# Altium footprint library HANDS-FREE-PCBLIB-V2.0.PcbLib: 236 footprints (part 12 of 16)
Each footprint in its own frame and in the unit in brackets; x right, y up, seen from the top. Pads: shape width x height; smd on the part's side, far side on the other; paste and mask are expansions set on the pad; w line width, h text height; cw(c..) or ccw(c..) is an arc to the next point about the centre after c.
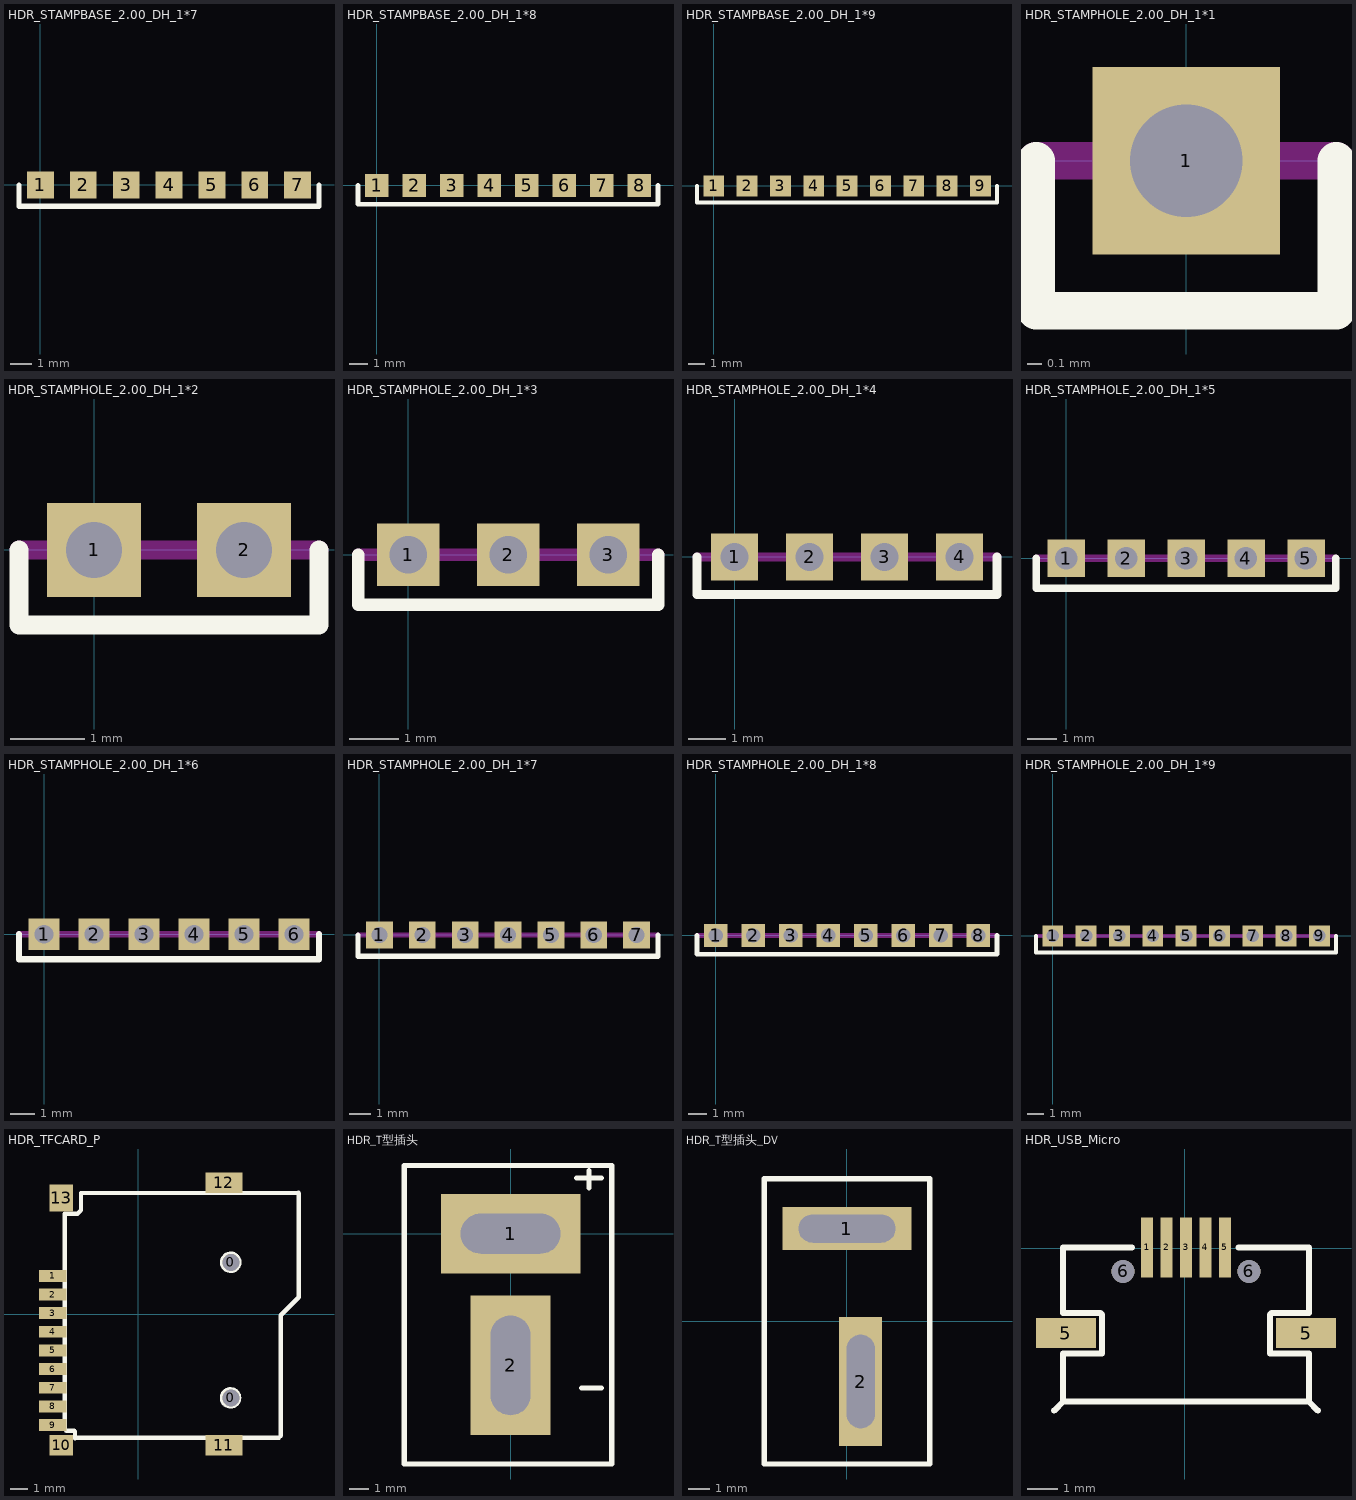
[diagram p11: the footprints below, top view; thin cyan lines are the x and y axes]

## HDR_STAMPBASE_2.00_DH_1*7 [mil]
pads (7):
  rect 50x50 smd: 1(0,0) 2(80,0) 3(160,0) 4(240,0) 5(320,0) 6(400,0) 7(480,0)
Top Overlay:
  lines w10: -40,0 -40,-40 520,-40 520,0

## HDR_STAMPBASE_2.00_DH_1*8 [mil]
pads (8):
  rect 50x50 smd: 1(0,0) 2(80,0) 3(160,0) 4(240,0) 5(320,0) 6(400,0) 7(480,0) 8(560,0)
Top Overlay:
  lines w10: -40,0 -40,-40 600,-40 600,0

## HDR_STAMPBASE_2.00_DH_1*9 [mil]
pads (9):
  rect 50x50 smd: 1(0,0) 2(80,0) 3(160,0) 4(240,0) 5(320,0) 6(400,0) 7(480,0) 8(560,0) 9(640,0)
Top Overlay:
  lines w10: -40,0 -40,-40 680,-40 680,0

## HDR_STAMPHOLE_2.00_DH_1*1 [mil]
pads (1):
  rect 50x50 hole 30: 1(0,0)
Top Overlay:
  lines w10: -40,0 -40,-40 40,-40 40,0
Keep-Out Layer:
  lines w10: -40,0 40,0

## HDR_STAMPHOLE_2.00_DH_1*2 [mil]
pads (2):
  rect 50x50 hole 30: 1(0,0) 2(80,0)
Top Overlay:
  lines w10: -40,0 -40,-40 120,-40 120,0
Keep-Out Layer:
  lines w10: -40,0 120,0

## HDR_STAMPHOLE_2.00_DH_1*3 [mil]
pads (3):
  rect 50x50 hole 30: 1(0,0) 2(80,0) 3(160,0)
Top Overlay:
  lines w10: -40,0 -40,-40 200,-40 200,0
Keep-Out Layer:
  lines w10: -40,0 200,0

## HDR_STAMPHOLE_2.00_DH_1*4 [mil]
pads (4):
  rect 50x50 hole 30: 1(0,0) 2(80,0) 3(160,0) 4(240,0)
Top Overlay:
  lines w10: -40,0 -40,-40 280,-40 280,0
Keep-Out Layer:
  lines w10: -40,0 280,0

## HDR_STAMPHOLE_2.00_DH_1*5 [mil]
pads (5):
  rect 50x50 hole 30: 1(0,0) 2(80,0) 3(160,0) 4(240,0) 5(320,0)
Top Overlay:
  lines w10: -40,0 -40,-40 360,-40 360,0
Keep-Out Layer:
  lines w10: -40,0 360,0

## HDR_STAMPHOLE_2.00_DH_1*6 [mil]
pads (6):
  rect 50x50 hole 30: 1(0,0) 2(80,0) 3(160,0) 4(240,0) 5(320,0) 6(400,0)
Top Overlay:
  lines w10: -40,0 -40,-40 440,-40 440,0
Keep-Out Layer:
  lines w10: -40,0 440,0

## HDR_STAMPHOLE_2.00_DH_1*7 [mil]
pads (7):
  rect 50x50 hole 30: 1(0,0) 2(80,0) 3(160,0) 4(240,0) 5(320,0) 6(400,0) 7(480,0)
Top Overlay:
  lines w10: -40,0 -40,-40 520,-40 520,0
Keep-Out Layer:
  lines w10: -40,0 520,0

## HDR_STAMPHOLE_2.00_DH_1*8 [mil]
pads (8):
  rect 50x50 hole 30: 1(0,0) 2(80,0) 3(160,0) 4(240,0) 5(320,0) 6(400,0) 7(480,0) 8(560,0)
Top Overlay:
  lines w10: -40,0 -40,-40 600,-40 600,0
Keep-Out Layer:
  lines w10: -40,0 600,0

## HDR_STAMPHOLE_2.00_DH_1*9 [mil]
pads (9):
  rect 50x50 hole 30: 1(0,0) 2(80,0) 3(160,0) 4(240,0) 5(320,0) 6(400,0) 7(480,0) 8(560,0) 9(640,0)
Top Overlay:
  lines w10: -40,0 -40,-40 680,-40 680,0
Keep-Out Layer:
  lines w10: -40,0 680,0

## HDR_TFCARD_P [mm]
pads (15):
  round 1 hole 1: 0(5.461,-4.953) 0(5.461,3.048)
  rect 1.6x0.7 smd: 1(-5.05,2.25) 2(-5.05,1.15) 3(-5.05,0.05) 4(-5.05,-1.05) 5(-5.05,-2.15) 6(-5.05,-3.25) 7(-5.05,-4.35) 8(-5.05,-5.45) 9(-5.05,-6.55)
  rect 1.4x1.2 smd: 10(-4.55,-7.75)
  rect 2.2x1.2 smd: 11(5.05,-7.75) 12(5.05,7.75)
  rect 1.4x1.6 smd: 13(-4.55,6.85)
Top Overlay:
  circle w0.254: c5.439,-4.948 r0.508
  circle w0.254: c5.45,3.05 r0.508
  lines w0.254: -3.738,-7.344 -3.738,-6.937 -3.789,-6.886 -4.246,-6.886 -4.348,-6.785 -4.348,5.915 -3.586,5.915 -3.383,6.118 -3.383,7.134 9.45,7.15 ; -3.688,-7.293 8.301,-7.293 8.403,-7.191 8.403,-0.079 9.47,0.988 9.47,7.13

## HDR_T型插头 [mm]
pads (2):
  rect 7x4 hole 2 slot 5 at 0 deg: 1(0,0)
  rect 4x7 hole 2 slot 5 at 90 deg: 2(0,-6.604)
Top Overlay:
  lines w0.254: 3.302,2.794 4.572,2.794 ; 3.556,-7.747 4.572,-7.747 ; 3.937,2.286 3.937,3.175 ; -5.334,-11.557 -5.334,3.429 -5.08,3.429 5.08,3.429 5.08,-11.557 -5.334,-11.557

## HDR_T型插头_DV [mm]
height 1.1
pads (2):
  rect 6x2 hole 1.3 slot 4.5 at 0 deg: 1(0,4.318)
  rect 2x6 hole 1.3 slot 4.35 at 90 deg: 2(0.635,-2.794)
Top Overlay:
  lines w0.254: -3.85,-6.625 3.85,-6.625 3.85,6.625 -3.85,6.625 -3.85,-6.625

## HDR_USB_Micro [mm]
pads (9):
  rect 0.4x2 smd: 1(-1.252,0.029) 2(-0.602,0.029) 3(0.048,0.029) 4(0.698,0.029) 5(1.348,0.029)
  rect 2x1 smd: 5(-3.952,-2.828) 5(4.049,-2.828)
  round 0.762 hole 0.762: 6(-2.052,-0.771) 6(2.148,-0.771)
Top Overlay:
  lines w0.2: -4.046,-5.109 4.142,-5.109 ; -4.046,0.029 -1.76,0.029 ; 1.796,0.029 4.142,0.029
  lines w0.203: -4.349,-5.412 -4.046,-5.109 -4.046,-3.507 -2.747,-3.507 -2.747,-2.208 -2.796,-2.159 -4.046,-2.159 -4.046,0.029 ; 4.142,0.029 4.142,-2.159 2.892,-2.159 2.843,-2.208 2.843,-3.507 4.142,-3.507 4.142,-5.109 4.445,-5.412